# Altium footprint library PTS526SM08SMTR2LFS.PcbLib: 1 footprints
Each footprint in its own frame and in the unit in brackets; x right, y up, seen from the top. Pads: shape width x height; smd on the part's side, far side on the other; paste and mask are expansions set on the pad; w line width, h text height; cw(c..) or ccw(c..) is an arc to the next point about the centre after c.
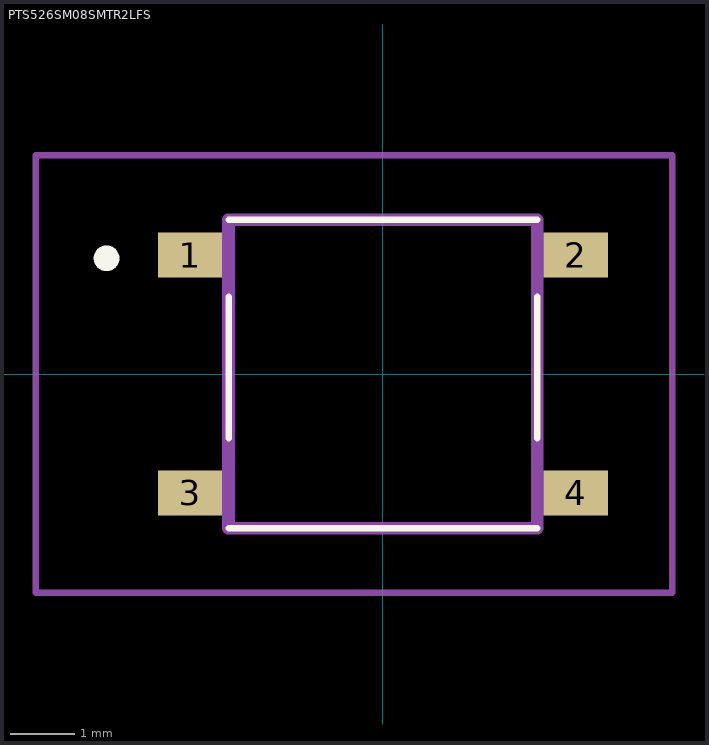
[diagram p0: the footprint, top view; thin cyan lines are the x and y axes]

## PTS526SM08SMTR2LFS [mm]
pads (4):
  rect 1x0.7 smd: 1(-3,1.85) 2(3,1.85) 3(-3,-1.85) 4(3,-1.85)
Top Overlay:
  lines w0.1: -2.4,-2.4 2.4,-2.4 ; -2.4,-1 -2.4,1.2 ; -2.4,2.4 2.4,2.4 ; 2.4,-1 2.4,1.2
  lines w0.2: -4.4,1.8 -4.4,1.8 ; -4.4,1.8 ccw(c-4.3,1.8) -4.2,1.8 ; -4.4,1.8 cw(c-4.3,1.8) -4.2,1.8 ; -4.2,1.8 -4.2,1.8
Mechanical 15:
  lines w0.2: -2.4,-2.4 2.4,-2.4 2.4,2.4 -2.4,2.4 -2.4,-2.4
Mechanical 20:
  lines w0.1: -5.4,-3.4 4.5,-3.4 4.5,3.4 -5.4,3.4 -5.4,-3.4
3D body "PTS526_SM08_SMTR2_LFS.stp": height 5.8, standoff -4.65, extent -10,-3.376 10,3.376